# EAGLE library part 2X60 (library IsaacAlonso)
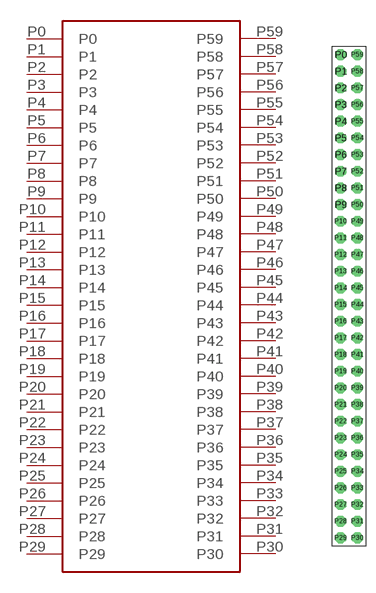
[diagram p5: symbol with the pads of 2X60; footprint 2X60]

Designator prefix -

## 2X60  [2X60]
P0  P0
P1  P1
P2  P2
P3  P3
P4  P4
P5  P5
P6  P6
P7  P7
P8  P8
P9  P9
P10  P10
P11  P11
P12  P12
P13  P13
P14  P14
P15  P15
P16  P16
P17  P17
P18  P18
P19  P19
P20  P20
P21  P21
P22  P22
P23  P23
P24  P24
P25  P25
P26  P26
P27  P27
P28  P28
P29  P29
P30  P30
P31  P31
P32  P32
P33  P33
P34  P34
P35  P35
P36  P36
P37  P37
P38  P38
P39  P39
P40  P40
P41  P41
P42  P42
P43  P43
P44  P44
P45  P45
P46  P46
P47  P47
P48  P48
P49  P49
P50  P50
P51  P51
P52  P52
P53  P53
P54  P54
P55  P55
P56  P56
P57  P57
P58  P58
P59  P59

## Footprint 2X60 (pad centres in mm)
drill 1.016 pad 1.651 octagon: P0 -1.27,36.83; P1 -1.27,34.29; P2 -1.27,31.75; P3 -1.27,29.21; P4 -1.27,26.67; P5 -1.27,24.13; P6 -1.27,21.59; P7 -1.27,19.05; P8 -1.27,16.51; P9 -1.27,13.97; P10 -1.27,11.43; P11 -1.27,8.89; P12 -1.27,6.35; P13 -1.27,3.81; P14 -1.27,1.27; P15 -1.27,-1.27; P16 -1.27,-3.81; P17 -1.27,-6.35; P18 -1.27,-8.89; P19 -1.27,-11.43; P20 -1.27,-13.97; P21 -1.27,-16.51; P22 -1.27,-19.05; P23 -1.27,-21.59; P24 -1.27,-24.13; P25 -1.27,-26.67; P26 -1.27,-29.21; P27 -1.27,-31.75; P28 -1.27,-34.29; P29 -1.27,-36.83; P30 1.27,-36.83; P31 1.27,-34.29; P32 1.27,-31.75; P33 1.27,-29.21; P34 1.27,-26.67; P35 1.27,-24.13; P36 1.27,-21.59; P37 1.27,-19.05; P38 1.27,-16.51; P39 1.27,-13.97; P40 1.27,-11.43; P41 1.27,-8.89; P42 1.27,-6.35; P43 1.27,-3.81; P44 1.27,-1.27; P45 1.27,1.27; P46 1.27,3.81; P47 1.27,6.35; P48 1.27,8.89; P49 1.27,11.43; P50 1.27,13.97; P51 1.27,16.51; P52 1.27,19.05; P53 1.27,21.59; P54 1.27,24.13; P55 1.27,26.67; P56 1.27,29.21; P57 1.27,31.75; P58 1.27,34.29; P59 1.27,36.83